# EAGLE library part XC7S15_CPGA196 (library Spartan7FPGA)
xc7s15_cpga196 Auto generated by make-symbol-device-package-bsdl.ulp Rev. 44 Source: xc7s15_cpga196.bsd
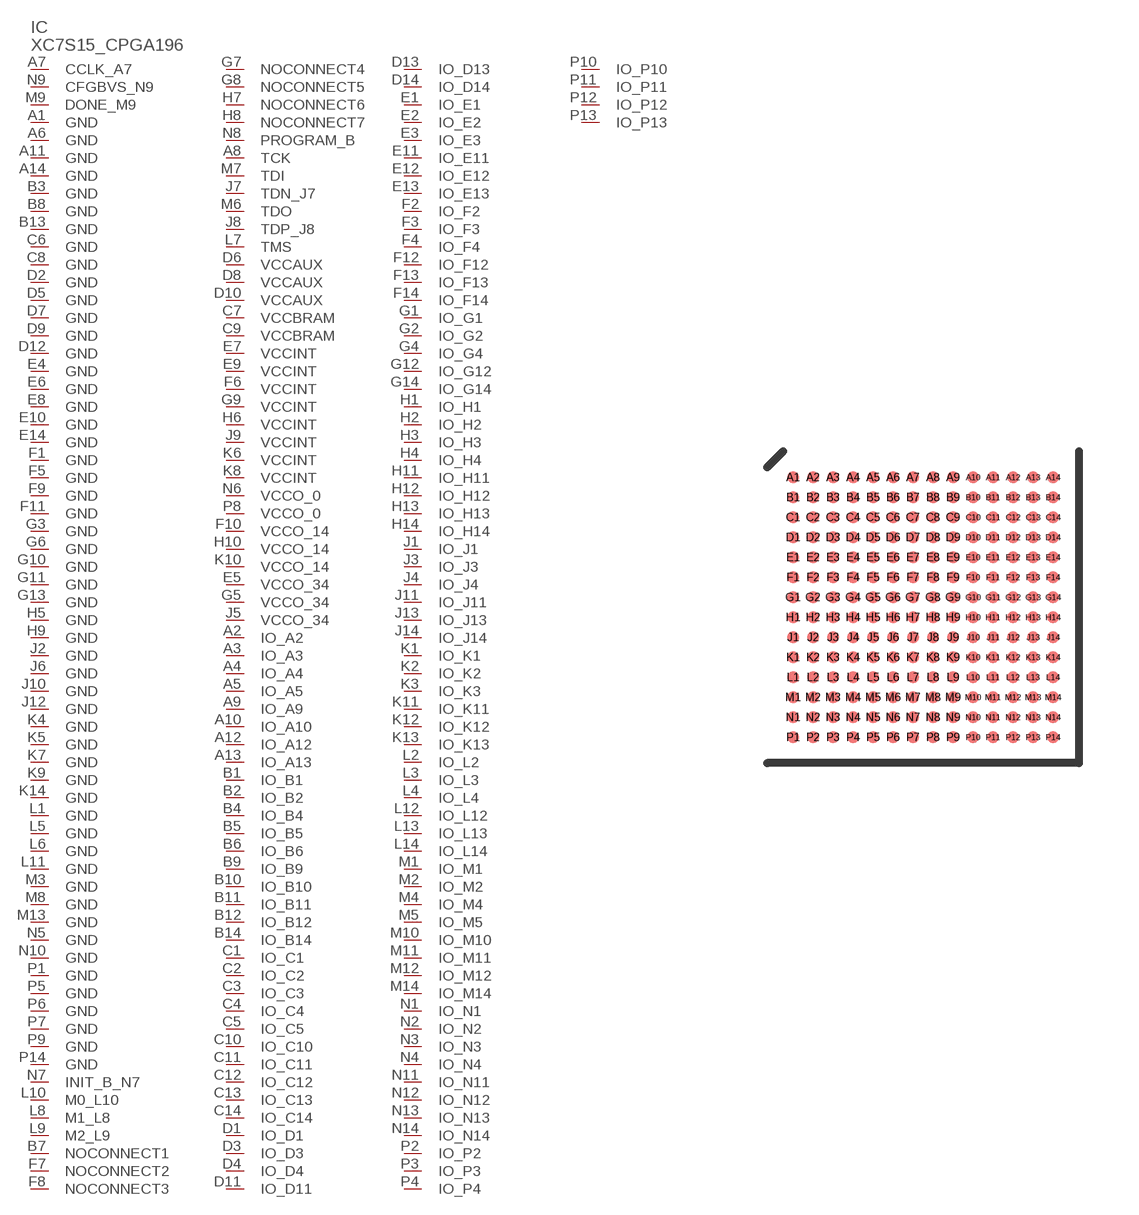
[diagram p0: symbol with the pads of CPGA196; footprint CPGA196]

Designator prefix IC

## XC7S15_CPGA196  [CPGA196]
A1  GND  pwr
A2  IO_A2
A3  IO_A3
A4  IO_A4
A5  IO_A5
A6  GND  pwr
A7  CCLK_A7
A8  TCK  in
A9  IO_A9
A10  IO_A10
A11  GND  pwr
A12  IO_A12
A13  IO_A13
A14  GND  pwr
B1  IO_B1
B2  IO_B2
B3  GND  pwr
B4  IO_B4
B5  IO_B5
B6  IO_B6
B7  NOCONNECT1  pas
B8  GND  pwr
B9  IO_B9
B10  IO_B10
B11  IO_B11
B12  IO_B12
B13  GND  pwr
B14  IO_B14
C1  IO_C1
C2  IO_C2
C3  IO_C3
C4  IO_C4
C5  IO_C5
C6  GND  pwr
C7  VCCBRAM  pwr
C8  GND  pwr
C9  VCCBRAM  pwr
C10  IO_C10
C11  IO_C11
C12  IO_C12
C13  IO_C13
C14  IO_C14
D1  IO_D1
D2  GND  pwr
D3  IO_D3
D4  IO_D4
D5  GND  pwr
D6  VCCAUX  pwr
D7  GND  pwr
D8  VCCAUX  pwr
D9  GND  pwr
D10  VCCAUX  pwr
D11  IO_D11
D12  GND  pwr
D13  IO_D13
D14  IO_D14
E1  IO_E1
E2  IO_E2
E3  IO_E3
E4  GND  pwr
E5  VCCO_34  pwr
E6  GND  pwr
E7  VCCINT  pwr
E8  GND  pwr
E9  VCCINT  pwr
E10  GND  pwr
E11  IO_E11
E12  IO_E12
E13  IO_E13
E14  GND  pwr
F1  GND  pwr
F2  IO_F2
F3  IO_F3
F4  IO_F4
F5  GND  pwr
F6  VCCINT  pwr
F7  NOCONNECT2  pas
F8  NOCONNECT3  pas
F9  GND  pwr
F10  VCCO_14  pwr
F11  GND  pwr
F12  IO_F12
F13  IO_F13
F14  IO_F14
G1  IO_G1
G2  IO_G2
G3  GND  pwr
G4  IO_G4
G5  VCCO_34  pwr
G6  GND  pwr
G7  NOCONNECT4  pas
G8  NOCONNECT5  pas
G9  VCCINT  pwr
G10  GND  pwr
G11  GND  pwr
G12  IO_G12
G13  GND  pwr
G14  IO_G14
H1  IO_H1
H2  IO_H2
H3  IO_H3
H4  IO_H4
H5  GND  pwr
H6  VCCINT  pwr
H7  NOCONNECT6  pas
H8  NOCONNECT7  pas
H9  GND  pwr
H10  VCCO_14  pwr
H11  IO_H11
H12  IO_H12
H13  IO_H13
H14  IO_H14
J1  IO_J1
J2  GND  pwr
J3  IO_J3
J4  IO_J4
J5  VCCO_34  pwr
J6  GND  pwr
J7  TDN_J7  pas
J8  TDP_J8  pas
J9  VCCINT  pwr
J10  GND  pwr
J11  IO_J11
J12  GND  pwr
J13  IO_J13
J14  IO_J14
K1  IO_K1
K2  IO_K2
K3  IO_K3
K4  GND  pwr
K5  GND  pwr
K6  VCCINT  pwr
K7  GND  pwr
K8  VCCINT  pwr
K9  GND  pwr
K10  VCCO_14  pwr
K11  IO_K11
K12  IO_K12
K13  IO_K13
K14  GND  pwr
L1  GND  pwr
L2  IO_L2
L3  IO_L3
L4  IO_L4
L5  GND  pwr
L6  GND  pwr
L7  TMS  in
L8  M1_L8  in
L9  M2_L9  in
L10  M0_L10  in
L11  GND  pwr
L12  IO_L12
L13  IO_L13
L14  IO_L14
M1  IO_M1
M2  IO_M2
M3  GND  pwr
M4  IO_M4
M5  IO_M5
M6  TDO  out
M7  TDI  in
M8  GND  pwr
M9  DONE_M9
M10  IO_M10
M11  IO_M11
M12  IO_M12
M13  GND  pwr
M14  IO_M14
N1  IO_N1
N2  IO_N2
N3  IO_N3
N4  IO_N4
N5  GND  pwr
N6  VCCO_0  pwr
N7  INIT_B_N7
N8  PROGRAM_B  in
N9  CFGBVS_N9  in
N10  GND  pwr
N11  IO_N11
N12  IO_N12
N13  IO_N13
N14  IO_N14
P1  GND  pwr
P2  IO_P2
P3  IO_P3
P4  IO_P4
P5  GND  pwr
P6  GND  pwr
P7  GND  pwr
P8  VCCO_0  pwr
P9  GND  pwr
P10  IO_P10
P11  IO_P11
P12  IO_P12
P13  IO_P13
P14  GND  pwr

## Footprint CPGA196 (pad centres in mm)
xc7s15_cpga196 edit this description Auto generated by make-symbol-device-package-bsdl.ulp Rev. 44 Source: xc7s15_cpga196.bsd
smd 0.3 x 0.3: A1 -3.25,3.25; A2 -2.75,3.25; A3 -2.25,3.25; A4 -1.75,3.25; A5 -1.25,3.25; A6 -0.75,3.25; A7 -0.25,3.25; A8 0.25,3.25; A9 0.75,3.25; A10 1.25,3.25; A11 1.75,3.25; A12 2.25,3.25; A13 2.75,3.25; A14 3.25,3.25; B1 -3.25,2.75; B2 -2.75,2.75; B3 -2.25,2.75; B4 -1.75,2.75; B5 -1.25,2.75; B6 -0.75,2.75; B7 -0.25,2.75; B8 0.25,2.75; B9 0.75,2.75; B10 1.25,2.75; B11 1.75,2.75; B12 2.25,2.75; B13 2.75,2.75; B14 3.25,2.75; C1 -3.25,2.25; C2 -2.75,2.25; C3 -2.25,2.25; C4 -1.75,2.25; C5 -1.25,2.25; C6 -0.75,2.25; C7 -0.25,2.25; C8 0.25,2.25; C9 0.75,2.25; C10 1.25,2.25; C11 1.75,2.25; C12 2.25,2.25; C13 2.75,2.25; C14 3.25,2.25; D1 -3.25,1.75; D2 -2.75,1.75; D3 -2.25,1.75; D4 -1.75,1.75; D5 -1.25,1.75; D6 -0.75,1.75; D7 -0.25,1.75; D8 0.25,1.75; D9 0.75,1.75; D10 1.25,1.75; D11 1.75,1.75; D12 2.25,1.75; D13 2.75,1.75; D14 3.25,1.75; E1 -3.25,1.25; E2 -2.75,1.25; E3 -2.25,1.25; E4 -1.75,1.25; E5 -1.25,1.25; E6 -0.75,1.25; E7 -0.25,1.25; E8 0.25,1.25; E9 0.75,1.25; E10 1.25,1.25; E11 1.75,1.25; E12 2.25,1.25; E13 2.75,1.25; E14 3.25,1.25; F1 -3.25,0.75; F2 -2.75,0.75; F3 -2.25,0.75; F4 -1.75,0.75; F5 -1.25,0.75; F6 -0.75,0.75; F7 -0.25,0.75; F8 0.25,0.75; F9 0.75,0.75; F10 1.25,0.75; F11 1.75,0.75; F12 2.25,0.75; F13 2.75,0.75; F14 3.25,0.75; G1 -3.25,0.25; G2 -2.75,0.25; G3 -2.25,0.25; G4 -1.75,0.25; G5 -1.25,0.25; G6 -0.75,0.25; G7 -0.25,0.25; G8 0.25,0.25; G9 0.75,0.25; G10 1.25,0.25; G11 1.75,0.25; G12 2.25,0.25; G13 2.75,0.25; G14 3.25,0.25; H1 -3.25,-0.25; H2 -2.75,-0.25; H3 -2.25,-0.25; H4 -1.75,-0.25; H5 -1.25,-0.25; H6 -0.75,-0.25; H7 -0.25,-0.25; H8 0.25,-0.25; H9 0.75,-0.25; H10 1.25,-0.25; H11 1.75,-0.25; H12 2.25,-0.25; H13 2.75,-0.25; H14 3.25,-0.25; J1 -3.25,-0.75; J2 -2.75,-0.75; J3 -2.25,-0.75; J4 -1.75,-0.75; J5 -1.25,-0.75; J6 -0.75,-0.75; J7 -0.25,-0.75; J8 0.25,-0.75; J9 0.75,-0.75; J10 1.25,-0.75; J11 1.75,-0.75; J12 2.25,-0.75; J13 2.75,-0.75; J14 3.25,-0.75; K1 -3.25,-1.25; K2 -2.75,-1.25; K3 -2.25,-1.25; K4 -1.75,-1.25; K5 -1.25,-1.25; K6 -0.75,-1.25; K7 -0.25,-1.25; K8 0.25,-1.25; K9 0.75,-1.25; K10 1.25,-1.25; K11 1.75,-1.25; K12 2.25,-1.25; K13 2.75,-1.25; K14 3.25,-1.25; L1 -3.25,-1.75; L2 -2.75,-1.75; L3 -2.25,-1.75; L4 -1.75,-1.75; L5 -1.25,-1.75; L6 -0.75,-1.75; L7 -0.25,-1.75; L8 0.25,-1.75; L9 0.75,-1.75; L10 1.25,-1.75; L11 1.75,-1.75; L12 2.25,-1.75; L13 2.75,-1.75; L14 3.25,-1.75; M1 -3.25,-2.25; M2 -2.75,-2.25; M3 -2.25,-2.25; M4 -1.75,-2.25; M5 -1.25,-2.25; M6 -0.75,-2.25; M7 -0.25,-2.25; M8 0.25,-2.25; M9 0.75,-2.25; M10 1.25,-2.25; M11 1.75,-2.25; M12 2.25,-2.25; M13 2.75,-2.25; M14 3.25,-2.25; N1 -3.25,-2.75; N2 -2.75,-2.75; N3 -2.25,-2.75; N4 -1.75,-2.75; N5 -1.25,-2.75; N6 -0.75,-2.75; N7 -0.25,-2.75; N8 0.25,-2.75; N9 0.75,-2.75; N10 1.25,-2.75; N11 1.75,-2.75; N12 2.25,-2.75; N13 2.75,-2.75; N14 3.25,-2.75; P1 -3.25,-3.25; P2 -2.75,-3.25; P3 -2.25,-3.25; P4 -1.75,-3.25; P5 -1.25,-3.25; P6 -0.75,-3.25; P7 -0.25,-3.25; P8 0.25,-3.25; P9 0.75,-3.25; P10 1.25,-3.25; P11 1.75,-3.25; P12 2.25,-3.25; P13 2.75,-3.25; P14 3.25,-3.25